# Altium footprint library Oscillator - TCXO.PcbLib: 3 footprints
Each footprint in its own frame and in the unit in brackets; x right, y up, seen from the top. Pads: shape width x height; smd on the part's side, far side on the other; paste and mask are expansions set on the pad; w line width, h text height; cw(c..) or ccw(c..) is an arc to the next point about the centre after c.
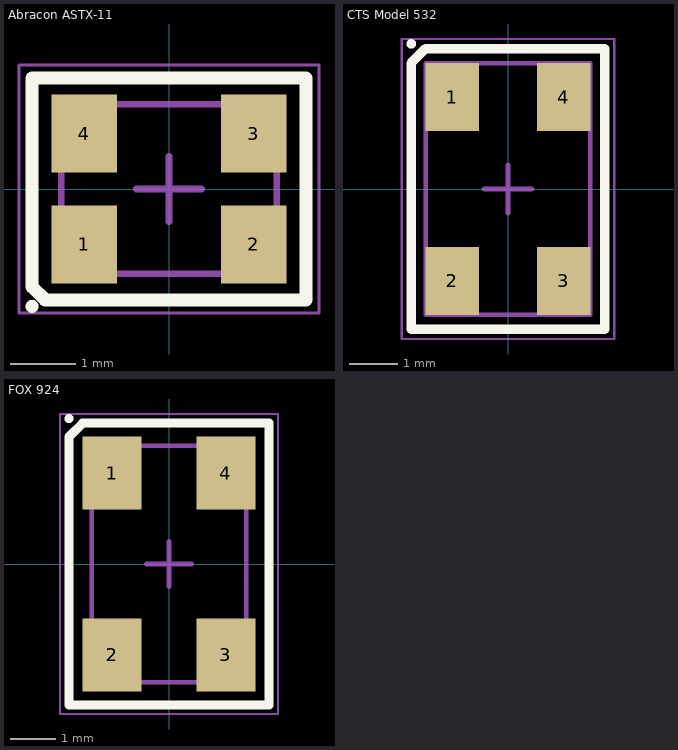
[diagram p0: the footprints below, top view; thin cyan lines are the x and y axes]

## Abracon ASTX-11 [mm] "Crystal, 4-Leads, Body 2.50x3.20mm, Pitch 2.38mm, IPC Medium Density"
height 0.9
pads (4):
  rect 1x1.2 smd: 1(-1.3,-0.85) 2(1.3,-0.85) 3(1.3,0.85) 4(-1.3,0.85)
Top Overlay:
  circle w0.1: c-2.1,-1.8 r0.05
  lines w0.2: -2.1,-1.5 -2.1,1.7 2.1,1.7 2.1,-1.7 -1.9,-1.7 -2.1,-1.5
Mechanical 13:
  lines w0.1: -1.65,-1.3 1.65,-1.3 1.65,1.3 -1.65,1.3 -1.65,-1.3
Mechanical 15:
  lines w0.05: -2.3,-1.9 2.3,-1.9 2.3,1.9 -2.3,1.9 -2.3,-1.9
  lines w0.1: -0.5,0 0.5,0 ; 0,-0.5 0,0.5
3D body "Abracon ASVTX-11.STEP": height 0.9, standoff 0, extent -1.61,-1.26 1.61,1.26

## CTS Model 532 [mm] "XO, 4-Leads, Body 5.00x3.20mm, Pitch 3.70mm, IPC Medium Density"
height 1.2
pads (4):
  rect 1.1x1.4 smd: 1(-1.15,1.9) 2(-1.15,-1.9) 3(1.15,-1.9) 4(1.15,1.9)
Top Overlay:
  circle w0.1: c-2,3 r0.05
  lines w0.2: -2,-2.9 -2,2.6 -1.7,2.9 2,2.9 2,-2.9 -2,-2.9
Mechanical 13:
  lines w0.1: -1.7,-2.6 1.7,-2.6 1.7,2.6 -1.7,2.6 -1.7,-2.6
Mechanical 15:
  lines w0.05: -2.2,-3.1 2.2,-3.1 2.2,3.1 -2.2,3.1 -2.2,-3.1
  lines w0.1: -0.5,0 0.5,0 ; 0,-0.5 0,0.5
3D body "CTS 532.STEP": height 1.2, standoff 0, extent -1.625,-2.525 1.625,2.525

## FOX 924 [mm] "XO, 4-Leads, Body 5.00x3.20mm, Pitch 3.70mm, IPC Medium Density"
height 1.5
pads (4):
  rect 1.3x1.6 smd: 1(-1.25,2) 2(-1.25,-2) 3(1.25,-2) 4(1.25,2)
Top Overlay:
  circle w0.1: c-2.2,3.2 r0.05
  lines w0.2: -2.2,-3.1 2.2,-3.1 2.2,3.1 -1.9,3.1 -2.2,2.8 -2.2,-3.1
Mechanical 13:
  lines w0.1: -1.7,-2.6 -1.7,2.6 1.7,2.6 1.7,-2.6 -1.7,-2.6
Mechanical 15:
  lines w0.05: -2.4,-3.3 -2.4,3.3 2.4,3.3 2.4,-3.3 -2.4,-3.3
  lines w0.1: -0.5,0 0.5,0 ; 0,-0.5 0,0.5
3D body "FOX924.STEP": height 1.5, standoff 0, extent -1.625,-2.525 1.625,2.525